# EAGLE library part F25?S (library con-subd)
SUB-D
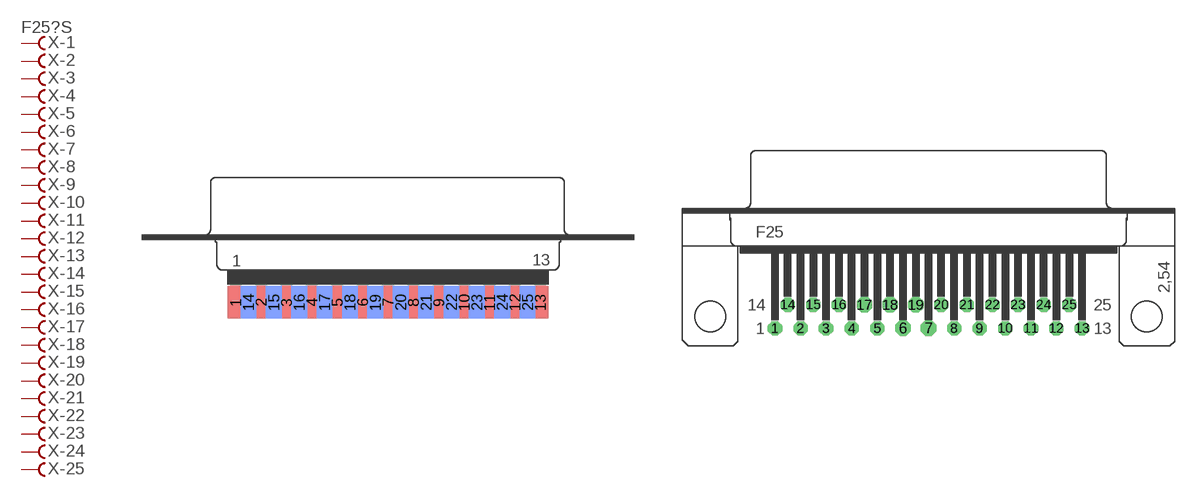
[diagram p63: symbol with the pads of F25D; footprints F25D, F25H]

Designator prefix X; gates -1=FV -2=F -3=F -4=F -5=F -6=F -7=F -8=F -9=F -10=F -11=F -12=F -13=F -14=F -15=F -16=F -17=F -18=F -19=F -20=F -21=F -22=F -23=F -24=F -25=F

## F25DS (OC_FARNELL: unknown; OC_NEWARK: unknown)  [F25D]
1  -1:F  pas
2  -2:F  pas
3  -3:F  pas
4  -4:F  pas
5  -5:F  pas
6  -6:F  pas
7  -7:F  pas
8  -8:F  pas
9  -9:F  pas
10  -10:F  pas
11  -11:F  pas
12  -12:F  pas
13  -13:F  pas
14  -14:F  pas
15  -15:F  pas
16  -16:F  pas
17  -17:F  pas
18  -18:F  pas
19  -19:F  pas
20  -20:F  pas
21  -21:F  pas
22  -22:F  pas
23  -23:F  pas
24  -24:F  pas
25  -25:F  pas

## F25HS (OC_FARNELL: unknown; OC_NEWARK: unknown)  [F25H]
Pads as for F25D

## F25HPS (OC_FARNELL: unknown; OC_NEWARK: unknown)  [F25HP]
Pads as for F25D

## F25VS (OC_FARNELL: unknown; OC_NEWARK: unknown)  [F25V]
Pads as for F25D

## F25VPS (OC_FARNELL: unknown; OC_NEWARK: unknown)  [F25VP]
Pads as for F25D

## F25VBS (OC_FARNELL: unknown; OC_NEWARK: unknown)  [F25VB]
Pads as for F25D

## F25.590S (OC_FARNELL: unknown; OC_NEWARK: unknown)  [177-025-FEMALE]
Pads as for F25D

## Footprint F25D (pad centres in mm)
SUB-D
smd 1.7 x 3.5: 1 -16.459,-6.045; 2 -13.716,-6.045; 3 -10.973,-6.045; 4 -8.23,-6.045; 5 -5.486,-6.045; 6 -2.743,-6.045; 7 0,-6.045; 8 2.743,-6.045; 9 5.486,-6.045; 10 8.23,-6.045; 11 10.973,-6.045; 12 13.716,-6.045; 13 16.459,-6.045
smd 1.7 x 3.5 bottom: 14 -15.088,-6.045; 15 -12.344,-6.045; 16 -9.601,-6.045; 17 -6.858,-6.045; 18 -4.115,-6.045; 19 -1.372,-6.045; 20 1.372,-6.045; 21 4.115,-6.045; 22 6.858,-6.045; 23 9.601,-6.045; 24 12.344,-6.045; 25 15.088,-6.045

## Footprint F25H (pad centres in mm)
SUB-D
drill 1.016 octagon: 1 -16.561,-1.27; 2 -13.792,-1.27; 3 -11.049,-1.27; 4 -8.28,-1.27; 5 -5.512,-1.27; 8 2.769,-1.27; 9 5.512,-1.27; 10 8.28,-1.27; 11 11.049,-1.27; 12 13.792,-1.27; 13 16.561,-1.27; 14 -15.189,1.27; 15 -12.421,1.27; 16 -9.652,1.27; 20 1.372,1.27; 21 4.14,1.27; 22 6.909,1.27; 23 9.652,1.27; 24 12.421,1.27; 25 15.189,1.27
drill 1.016 pad 1.67 octagon: 6 -2.769,-1.27; 7 0,-1.27; 17 -6.909,1.27; 18 -4.14,1.27; 19 -1.372,1.27
hole 3.302 at -23.52,0
hole 3.302 at 23.52,0

## Footprint F25HP (pad centres in mm)
SUB-D
drill 1.016 octagon: 1 -16.561,-1.27; 2 -13.792,-1.27; 3 -11.049,-1.27; 4 -8.28,-1.27; 5 -5.512,-1.27; 6 -2.769,-1.27; 7 0,-1.27; 8 2.769,-1.27; 9 5.512,-1.27; 10 8.28,-1.27; 11 11.049,-1.27; 12 13.792,-1.27; 13 16.561,-1.27; 14 -15.189,1.27; 15 -12.421,1.27; 16 -9.652,1.27; 17 -6.909,1.27; 18 -4.14,1.27; 19 -1.372,1.27; 20 1.372,1.27; 21 4.14,1.27; 22 6.909,1.27; 23 9.652,1.27; 24 12.421,1.27; 25 15.189,1.27
drill 3.302 pad 5.08 round: G1 -23.52,0; G2 23.52,0

## Footprint F25V (pad centres in mm)
SUB-D
drill 1.016 octagon: 1 16.561,1.422; 2 13.792,1.422; 3 11.049,1.422; 4 8.28,1.422; 5 5.512,1.422; 6 2.769,1.422; 7 0,1.422; 8 -2.769,1.422; 9 -5.512,1.422; 10 -8.28,1.422; 11 -11.049,1.422; 12 -13.792,1.422; 13 -16.561,1.422; 14 15.189,-1.422; 15 12.421,-1.422; 16 9.652,-1.422; 17 6.909,-1.422; 18 4.14,-1.422; 19 1.372,-1.422; 20 -1.372,-1.422; 21 -4.14,-1.422; 22 -6.909,-1.422; 23 -9.652,-1.422; 24 -12.421,-1.422; 25 -15.189,-1.422
hole 3.302 at 23.52,0
hole 3.302 at -23.52,0

## Footprint F25VP (pad centres in mm)
SUB-D
drill 1.016 octagon: 1 16.561,1.422; 2 13.792,1.422; 3 11.049,1.422; 4 8.28,1.422; 5 5.512,1.422; 6 2.769,1.422; 7 0,1.422; 8 -2.769,1.422; 9 -5.512,1.422; 10 -8.28,1.422; 11 -11.049,1.422; 12 -13.792,1.422; 13 -16.561,1.422; 14 15.189,-1.422; 15 12.421,-1.422; 16 9.652,-1.422; 17 6.909,-1.422; 18 4.14,-1.422; 19 1.372,-1.422; 20 -1.372,-1.422; 21 -4.14,-1.422; 22 -6.909,-1.422; 23 -9.652,-1.422; 24 -12.421,-1.422; 25 -15.189,-1.422
drill 3.302 pad 5.08 round: G1 -23.52,0; G2 23.52,0

## Footprint F25VB (pad centres in mm)
SUB-D
drill 1.016 octagon: 1 -16.561,-1.422; 2 -13.792,-1.422; 3 -11.049,-1.422; 4 -8.28,-1.422; 5 -5.512,-1.422; 6 -2.769,-1.422; 7 0,-1.422; 8 2.769,-1.422; 9 5.512,-1.422; 10 8.28,-1.422; 11 11.049,-1.422; 12 13.792,-1.422; 13 16.561,-1.422; 14 -15.189,1.422; 15 -12.421,1.422; 16 -9.652,1.422; 17 -6.909,1.422; 18 -4.14,1.422; 19 -1.372,1.422; 20 1.372,1.422; 21 4.14,1.422; 22 6.909,1.422; 23 9.652,1.422; 24 12.421,1.422; 25 15.189,1.422

## Footprint 177-025-FEMALE (pad centres in mm)
NorComp 177 Series (0.590" Foorprint) Female 25 Pol. Source: Digi-Key, subd.pdf
drill 1.194 pad 1.524 octagon: 1 -16.612,-9.84; 2 -13.843,-9.84; 3 -11.074,-9.84; 4 -8.306,-9.84; 5 -5.537,-9.84; 6 -2.769,-9.84; 7 0,-9.84; 8 2.769,-9.84; 9 5.537,-9.84; 10 8.306,-9.84; 11 11.074,-9.84; 12 13.843,-9.84; 13 16.612,-9.84; 14 -15.227,-6.997; 15 -12.459,-6.997; 16 -9.69,-6.997; 17 -6.921,-6.997; 18 -4.153,-6.997; 19 -1.384,-6.997; 20 1.384,-6.997; 21 4.153,-6.997; 22 6.921,-6.997; 23 9.69,-6.997; 24 12.459,-6.997; 25 15.227,-6.997